# Altium footprint library TO92127P520H787-3.PcbLib: 2 footprints
Each footprint in its own frame and in the unit in brackets; x right, y up, seen from the top. Pads: shape width x height; smd on the part's side, far side on the other; paste and mask are expansions set on the pad; w line width, h text height; cw(c..) or ccw(c..) is an arc to the next point about the centre after c.
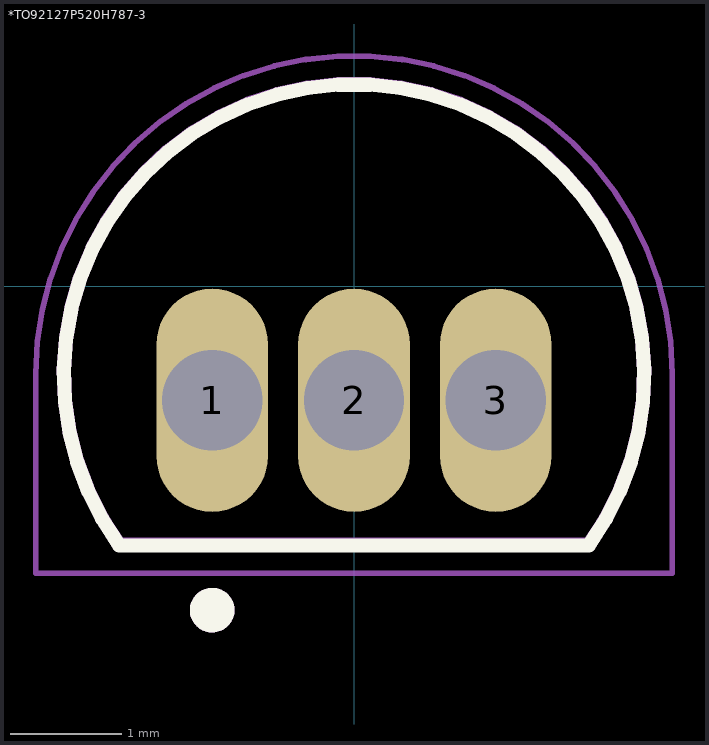
[diagram p0: the footprints below, top view; thin cyan lines are the x and y axes]

## *TO92127P520H787-3 [mm]
pads (3):
  oval 1x2 hole 0.9: 1(-1.27,-1.02) 2(0,-1.02) 3(1.27,-1.02)
Top Overlay:
  circle w0.2: c-1.27,-2.9 r0.1
  lines w0.127: -2.103,-2.318 cw(c0,-0.79) 2.103,-2.318 ; -2.102,-2.32 2.102,-2.32
Mechanical 4:
  circle w0.2: c-1.27,-2.9 r0.1
  circle w0.2: c-1.27,-2.9 r0.1
  lines w0.127: -2.103,-2.313 cw(c0,-0.785) 2.103,-2.313 ccw(c0,-0.785) -2.103,-2.313 ; -2.102,-2.315 2.102,-2.315 -2.102,-2.315
Mechanical 16:
  lines w0.05: -2.85,-2.57 2.85,-2.57 2.85,-0.785 ccw(c0,-0.785) -2.85,-0.785 -2.85,-2.57

## PCBComponent_1 [mm]